# EAGLE library part PCM1781DBQ (library steves)
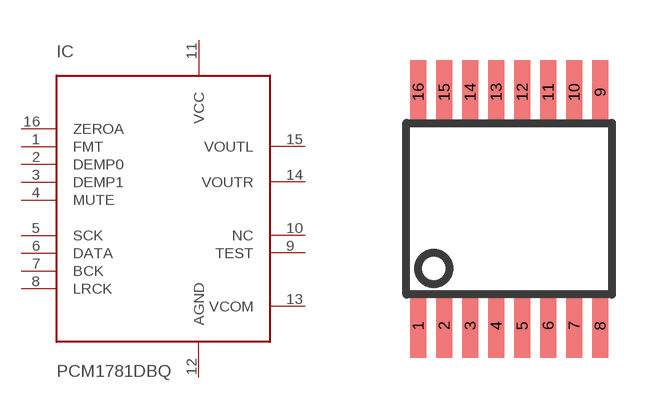
[diagram p46: symbol with the pads of SSOP16; footprint SSOP16]

Designator prefix IC

## PCM1781DBQ  [SSOP16]
1  FMT  in
2  DEMP0  in
3  DEMP1  in
4  MUTE  in
5  SCK  in
6  DATA  in
7  BCK  in
8  LRCK  in
9  TEST  nc
10  NC  nc
11  VCC  pwr
12  AGND  pwr
13  VCOM  pwr
14  VOUTR  out
15  VOUTL  out
16  ZEROA  in

## Footprint SSOP16 (pad centres in mm)
Small Shrink Outline Package
smd 0.4 x 1.6: 1 -2.275,-2.925; 2 -1.625,-2.925; 3 -0.975,-2.925; 4 -0.325,-2.925; 5 0.325,-2.925; 6 0.975,-2.925; 7 1.625,-2.925; 8 2.275,-2.925; 9 2.275,2.925; 10 1.625,2.925; 11 0.975,2.925; 12 0.325,2.925; 13 -0.325,2.925; 14 -0.975,2.925; 15 -1.625,2.925; 16 -2.275,2.925